# Altium schematic symbol library TDKLambdaRegulator.SchLib: 1 symbol
Pins are listed as number, name and electrical type; pins without a type are passive.

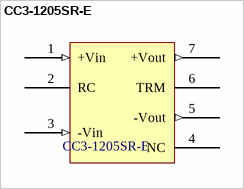
[diagram p0: symbol CC3-1205SR-E]

## CC3-1205SR-E
designator CC3-1205SR-E  (value not drawn)
Isolated Module DC DC Converter 1 Output 5V 600mA 9V - 18V Input; Manufacturer: TDK-Lambda; Manufacturer Part Number: CC3-1205SR-E; Converter: 12V to 5V; Power: 3W; Supplier 1: Digi-Key; Supplier Part Number 1: 445-2471-ND; Supplier 2: Mouser; Supplier Part Number 2: 967-CC3-1205SR-E
footprint CC3-1205SR-E (DC - DC (12V - 5V) Switching Regulator (16.6mm x 22.86mm x 8.8mm))
pins: 1 +Vin (in), 2 RC, 3 -Vin (in), 4 NC, 5 -Vout (out), 6 TRM, 7 +Vout (out)